# Altium schematic symbol library BLE BaseBoard.SCHLIB: 7 symbols
Pins are listed as number, name and electrical type; pins without a type are passive.

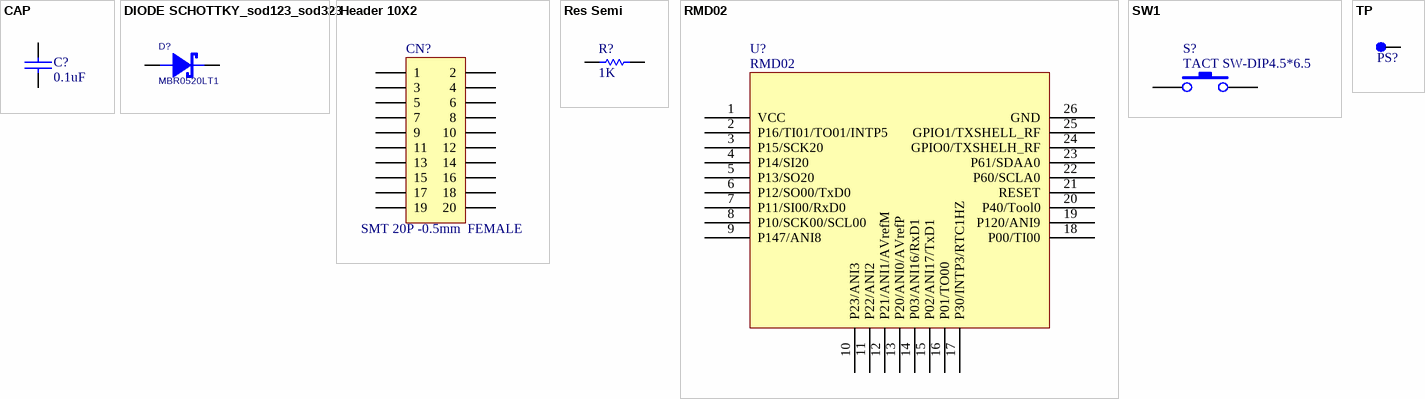
[diagram p0: symbols CAP to TP]

## CAP
designator C?, comment 0.1uF
Capacitor; value: 0.1uF
footprint 0603C
footprint 0805
footprint 1206
footprint 0402C
footprint 0402C
pins: 1, 2
2 alternate drawings of the same symbol

## DIODE SCHOTTKY_sod123_sod323
designator D?, comment MBR0520LT1
Schottky Diodes; Part Number: 40010052001; Right: 30; Bottom: 20; PCB_loc: Top; PCB_dir: 180.000000; PCB_y: 33.972500; PCB_x: 60.960000; Package Height: 1.35mm; Rating: 0.5A/20V; Value: MBR0520LT1
footprint mot/sod123
footprint MBR0520LT1--NEW (MBR0520LT1--New)
pins: 1 cathode, 2 anode
2 alternate drawings of the same symbol

## Header 10X2
designator CN?, comment SMT 20P -0.5mm  FEMALE
0.5 Board to Board Stacked  Height 3.0mm FEMALE; LatestRevisionDate: 17-Jul-2002; LatestRevisionNote: Re-released for DXP Platform.; Publisher: Altium Limited; Value: SMT 20P -0.5mm  FEMALE
footprint SMT  0.5mm - 20P Board to Board  Stacked
pins: 1, 2, 3, 4, 5, 6, 7, 8, 9, 10, 11, 12, 13, 14, 15, 16, 17, 18, 19, 20

## Res Semi
designator R?, comment 1K
Semiconductor Resistor; Published: 8-Jun-2000; LatestRevisionDate: 17-Jul-2002; LatestRevisionNote: Re-released for DXP Platform.; PackageReference: AXIAL-0.5; Publisher: Altium Limited; Value: 1K
footprint AXIAL-0.5
footprint 1005[0402]
footprint 1608[0603]
footprint 2012[0805]
footprint 0402
pins: 1, 2
2 alternate drawings of the same symbol

## RMD02
designator U?
Module Pad; Value: RMD02
pins: 1 VCC, 2 P16/TI01/TO01/INTP5, 3 P15/SCK20, 4 P14/SI20, 5 P13/SO20, 6 P12/SO00/TxD0, 7 P11/SI00/RxD0, 8 P10/SCK00/SCL00, 9 P147/ANI8, 10 P23/ANI3, 11 P22/ANI2, 12 P21/ANI1/AVrefM, 13 P20/ANI0/AVrefP, 14 P03/ANI16/RxD1, 15 P02/ANI17/TxD1, 16 P01/TO00, 17 P30/INTP3/RTC1HZ, 18 P00/TI00, 19 P120/ANI9, 20 P40/Tool0, 21 RESET, 22 P60/SCLA0, 23 P61/SDAA0, 24 GPIO0/TXSHELH_RF, 25 GPIO1/TXSHELL_RF, 26 GND

## SW1
designator S?, comment TACT SW-DIP4.5*6.5
Button; Value: TACT SW-DIP4.5*6.5
footprint SWA
footprint IDSW
footprint IDSW2
footprint IDSW-S
footprint TACT SW-DIP4.5*6.5
pins: 1, 2
2 alternate drawings of the same symbol

## TP
designator PS?  (value not drawn)
Test point; Value: PS1
footprint TESTPAD-0.6MM
footprint TESTPAD-0.6MM-1
footprint TESTPAD-0.4MM
footprint TESTPAD-0.4MM-1
footprint MODULE-PAD-0.65X0.4
footprint TESTPAD-1X0.6MM-1
pins: 1
2 alternate drawings of the same symbol